# EAGLE library part SN74AUP1T157 (library bschulz)
SN74AUP1T157 - Non-Inverting Digital Multiplexer, Schmitt Trigger (1:2) Characteristics: VCC: 2.3~3.3V Operating Temperature: -40°C to 85°C Digikey: 296-27393-1-ND <https://www.digikey.com/product-detail/en/texas-instruments/SN74AUP1T157DCKR/296-27393-1-ND/2280367>
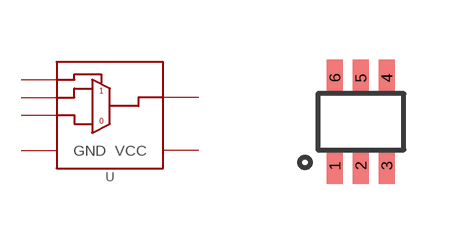
[diagram p87: symbol with the pads of DCK_R-PDSO-G6; footprint DCK_R-PDSO-G6]

Designator prefix U

## SN74AUP1T157DCK (DIGIKEY: 296-27393-1-ND; DISP: SN74AUP1T157; MF: TI; MPN: SN74AUP1T157DCKR)  [DCK_R-PDSO-G6]
1  A  in
2  GND  pwr
3  B  in
4  C  in
5  VCC  pwr
6  Y  out

## Footprint DCK_R-PDSO-G6 (pad centres in mm)
smd 0.4 x 0.9: 1 -0.65,-1.1; 2 0,-1.1; 3 0.65,-1.1; 4 0.65,1.1; 5 0,1.1; 6 -0.65,1.1